# EAGLE library part USB-ID (library openblw)
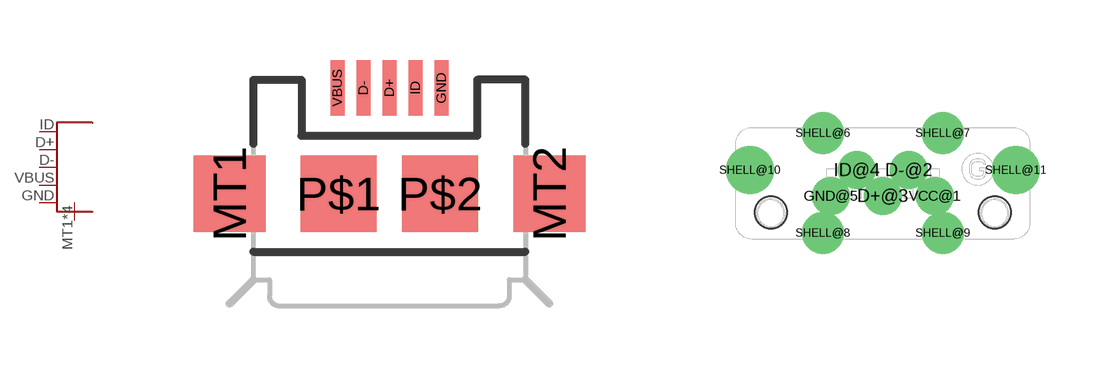
[diagram p5: symbol with the pads of USB-MICRO; footprints USB-MICRO, USB3150-30-130]

Designator prefix MALE

## USB-IDMICRO (PROD_ID: CONN-09505)  [USB-MICRO]
D+  D+
D-  D-
GND  GND
ID  ID
MT1  SHELL
MT2  SHELL
P$1  SHELL
P$2  SHELL
VBUS  VBUS

## USB-ID  [USB3150-30-130]
D+@3  D+
D-@2  D-
GND@5  GND
ID@4  ID
SHELL@6  SHELL
SHELL@7  SHELL
SHELL@8  SHELL
SHELL@9  SHELL
SHELL@10  SHELL
SHELL@11  SHELL
VCC@1  VBUS

## Footprint USB-MICRO (pad centres in mm)
smd 0.35 x 1.4: D+ 0,2.65; D- -0.65,2.65; GND 1.3,2.65; ID 0.65,2.65; VBUS -1.3,2.65
smd 1.8 x 1.9: MT1 -4,0; MT2 4,0
smd 1.9 x 1.9: P$1 -1.27,0; P$2 1.27,0

## Footprint USB3150-30-130 (pad centres in mm)
drill 0.45 pad 0.7: D+@3 0,-0.325; D-@2 0.65,0.325; GND@5 -1.3,-0.325; ID@4 -0.65,0.325; VCC@1 1.3,-0.325
drill 0.55 pad 0.8: SHELL@6 -1.5,1.25; SHELL@7 1.5,1.25; SHELL@8 -1.5,-1.25; SHELL@9 1.5,-1.25
drill 0.7 pad 0.95: SHELL@10 -3.325,0.325; SHELL@11 3.325,0.325
hole 0.8 at -2.8,-0.745
hole 0.8 at 2.8,-0.745